# EAGLE library part 610024243021 (library Board-to-Board (rev18a))
WR-PHD 2.54mm SMT Dual Socket Header Bottom Entry, 24 Pins=>Code : Con_BTB_SHD_2.54_2_610024243021 <http://katalog.we-online.de/media/images/eican/Con_BTB_SHD_2.54_2_6100xx243021_pf2.jpg> http://katalog.we-online.de/en/em/PHD_2_54_SMT_DUAL_SOCKET_HEADER_BOTTOM_ENTRY_6100XX243021 Created 2014-05-30, Karrer Zheng 2014 (C) Würth Elektronik
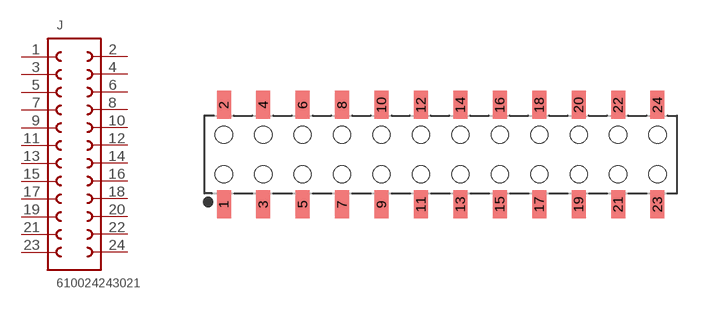
[diagram p184: symbol with the pads of 610024243021; footprint 610024243021]

Designator prefix J

## 610024243021  [610024243021]
1  1  pas
2  24  pas
3  2  pas
4  23  pas
5  3  pas
6  22  pas
7  4  pas
8  21  pas
9  5  pas
10  20  pas
11  6  pas
12  19  pas
13  7  pas
14  18  pas
15  8  pas
16  17  pas
17  9  pas
18  16  pas
19  10  pas
20  15  pas
21  11  pas
22  14  pas
23  12  pas
24  13  pas

## Footprint 610024243021 (pad centres in mm)
WR-PHD 2.54mm SMT Dual Socket Header Bottom Entry, 24 Pins
smd 0.9 x 1.8: 1 -13.97,-3.2; 2 -13.97,3.2; 3 -11.43,-3.2; 4 -11.43,3.2; 5 -8.89,-3.2; 6 -8.89,3.2; 7 -6.35,-3.2; 8 -6.35,3.2; 9 -3.81,-3.2; 10 -3.81,3.2; 11 -1.27,-3.2; 12 -1.27,3.2; 13 1.27,-3.2; 14 1.27,3.2; 15 3.81,-3.2; 16 3.81,3.2; 17 6.35,-3.2; 18 6.35,3.2; 19 8.89,-3.2; 20 8.89,3.2; 21 11.43,-3.2; 22 11.43,3.2; 23 13.97,-3.2; 24 13.97,3.2
hole 1.1 at -13.97,1.27
hole 1.1 at -11.43,1.27
hole 1.1 at -11.43,-1.27
hole 1.1 at -13.97,-1.27
hole 1.1 at -8.89,1.27
hole 1.1 at -8.89,-1.27
hole 1.1 at -6.35,1.27
hole 1.1 at -6.35,-1.27
hole 1.1 at -3.81,-1.27
hole 1.1 at -3.81,1.27
hole 1.1 at -1.27,1.27
hole 1.1 at -1.27,-1.27
hole 1.1 at 1.27,-1.27
hole 1.1 at 1.27,1.27
hole 1.1 at 3.81,1.27
hole 1.1 at 3.81,-1.27
hole 1.1 at 6.35,1.27
hole 1.1 at 6.35,-1.27
hole 1.1 at 8.89,1.27
hole 1.1 at 8.89,-1.27
hole 1.1 at 11.43,1.27
hole 1.1 at 11.43,-1.27
hole 1.1 at 13.97,-1.27
hole 1.1 at 13.97,1.27